# Altium integrated library interface-darlington-driver.IntLib: 41 symbols
Pins are listed as number, name and electrical type; pins without a type are passive.

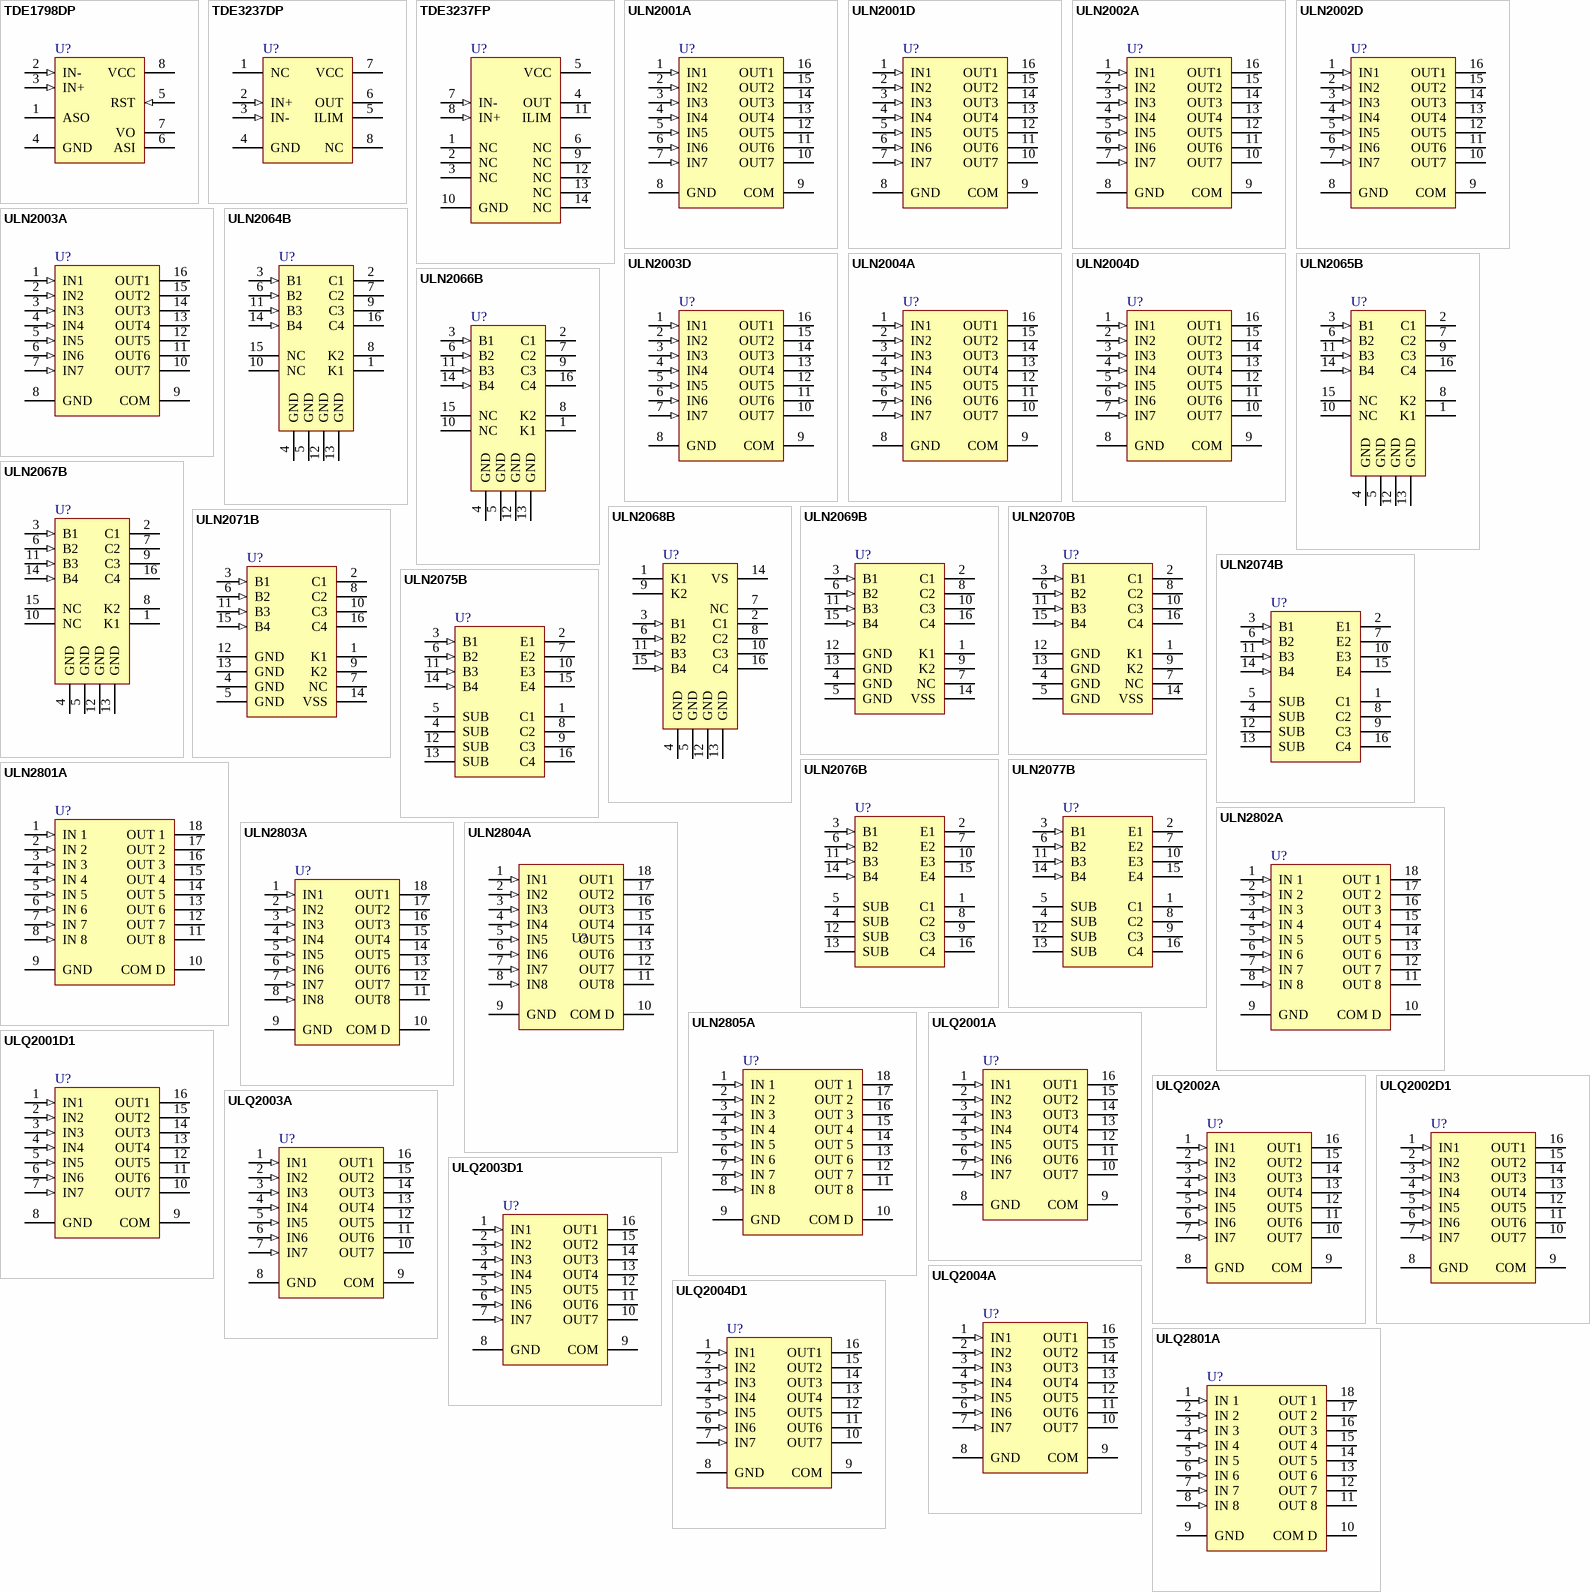
[diagram p0: symbols TDE1798DP to ULQ2801A]

## TDE1798DP
designator U?
0.5A Intelligent Power Switch; DatasheetVersion: 2022
footprint DIP8 (DIP; 8 Leads; Row Spacing 7.62 mm; Pitch 2.54 mm)
pins: 1 ASO (oe), 2 IN- (in), 3 IN+ (in), 4 GND (power), 5 RST (in), 6 ASI (oc), 7 VO (oc), 8 VCC (power)

## TDE3237DP
designator U?
Intelligent Power Switch; DatasheetVersion: 2022
footprint DIP8 (DIP; 8 Leads; Row Spacing 7.62 mm; Pitch 2.54 mm)
pins: 1 NC, 2 IN+ (in), 3 IN- (in), 4 GND (power), 5 ILIM, 6 OUT (oc), 7 VCC (power), 8 NC

## TDE3237FP
designator U?
Intelligent Power Switch; DatasheetVersion: 2022
footprint SO14_N (SOIC, 14-Leads, Body 8.7x3.9mm, Pitch 1.27mm, IPC Medium Density)
footprint SO14_L (SOIC, 14-Leads, Body 8.7x3.9mm, Pitch 1.27mm, IPC High Density)
footprint SO14_M (SOIC, 14-Leads, Body 8.7x3.9mm, Pitch 1.27mm, IPC Low Density)
pins: 1 NC, 2 NC, 3 NC, 4 OUT (oc), 5 VCC (power), 6 NC, 7 IN- (in), 8 IN+ (in), 9 NC, 10 GND (power), 11 ILIM, 12 NC, 13 NC, 14 NC

## ULN2001A
designator U?
Seven Darlington Array; DatasheetVersion: 2022
footprint DIP16 (DIP; 16 Leads; Row Spacing 7.62 mm; Pitch 2.54 mm)
pins: 1 IN1 (in), 2 IN2 (in), 3 IN3 (in), 4 IN4 (in), 5 IN5 (in), 6 IN6 (in), 7 IN7 (in), 8 GND (power), 9 COM, 10 OUT7 (oc), 11 OUT6 (oc), 12 OUT5 (oc), 13 OUT4 (oc), 14 OUT3 (oc), 15 OUT2 (oc), 16 OUT1 (oc)

## ULN2001D
designator U?
Seven Darlington Array; DatasheetVersion: 2022
footprint SO16_N (SOIC, 16-Leads, Body 9.9x3.9mm, Pitch 1.27mm, IPC Medium Density)
footprint SO16_L (SOIC, 16-Leads, Body 9.9x3.9mm, Pitch 1.27mm, IPC High Density)
footprint SO16_M (SOIC, 16-Leads, Body 9.9x3.9mm, Pitch 1.27mm, IPC Low Density)
pins: 1 IN1 (in), 2 IN2 (in), 3 IN3 (in), 4 IN4 (in), 5 IN5 (in), 6 IN6 (in), 7 IN7 (in), 8 GND (power), 9 COM, 10 OUT7 (oc), 11 OUT6 (oc), 12 OUT5 (oc), 13 OUT4 (oc), 14 OUT3 (oc), 15 OUT2 (oc), 16 OUT1 (oc)

## ULN2002A
designator U?
Seven Darlington Array; DatasheetVersion: 2022
footprint DIP16 (DIP; 16 Leads; Row Spacing 7.62 mm; Pitch 2.54 mm)
pins: 1 IN1 (in), 2 IN2 (in), 3 IN3 (in), 4 IN4 (in), 5 IN5 (in), 6 IN6 (in), 7 IN7 (in), 8 GND (power), 9 COM, 10 OUT7 (oc), 11 OUT6 (oc), 12 OUT5 (oc), 13 OUT4 (oc), 14 OUT3 (oc), 15 OUT2 (oc), 16 OUT1 (oc)

## ULN2002D
designator U?
Seven Darlington Array; DatasheetVersion: 2022
footprint SO16_N (SOIC, 16-Leads, Body 9.9x3.9mm, Pitch 1.27mm, IPC Medium Density)
footprint SO16_L (SOIC, 16-Leads, Body 9.9x3.9mm, Pitch 1.27mm, IPC High Density)
footprint SO16_M (SOIC, 16-Leads, Body 9.9x3.9mm, Pitch 1.27mm, IPC Low Density)
pins: 1 IN1 (in), 2 IN2 (in), 3 IN3 (in), 4 IN4 (in), 5 IN5 (in), 6 IN6 (in), 7 IN7 (in), 8 GND (power), 9 COM, 10 OUT7 (oc), 11 OUT6 (oc), 12 OUT5 (oc), 13 OUT4 (oc), 14 OUT3 (oc), 15 OUT2 (oc), 16 OUT1 (oc)

## ULN2003A
designator U?
Seven Darlington Array; DatasheetVersion: 2022
footprint DIP16 (DIP; 16 Leads; Row Spacing 7.62 mm; Pitch 2.54 mm)
pins: 1 IN1 (in), 2 IN2 (in), 3 IN3 (in), 4 IN4 (in), 5 IN5 (in), 6 IN6 (in), 7 IN7 (in), 8 GND (power), 9 COM, 10 OUT7 (oc), 11 OUT6 (oc), 12 OUT5 (oc), 13 OUT4 (oc), 14 OUT3 (oc), 15 OUT2 (oc), 16 OUT1 (oc)

## ULN2003D
designator U?
Seven Darlington Array; DatasheetVersion: 2022
footprint SO16_N (SOIC, 16-Leads, Body 9.9x3.9mm, Pitch 1.27mm, IPC Medium Density)
footprint SO16_L (SOIC, 16-Leads, Body 9.9x3.9mm, Pitch 1.27mm, IPC High Density)
footprint SO16_M (SOIC, 16-Leads, Body 9.9x3.9mm, Pitch 1.27mm, IPC Low Density)
pins: 1 IN1 (in), 2 IN2 (in), 3 IN3 (in), 4 IN4 (in), 5 IN5 (in), 6 IN6 (in), 7 IN7 (in), 8 GND (power), 9 COM, 10 OUT7 (oc), 11 OUT6 (oc), 12 OUT5 (oc), 13 OUT4 (oc), 14 OUT3 (oc), 15 OUT2 (oc), 16 OUT1 (oc)

## ULN2004A
designator U?
Seven Darlington Array; DatasheetVersion: 2022
footprint DIP16 (DIP; 16 Leads; Row Spacing 7.62 mm; Pitch 2.54 mm)
pins: 1 IN1 (in), 2 IN2 (in), 3 IN3 (in), 4 IN4 (in), 5 IN5 (in), 6 IN6 (in), 7 IN7 (in), 8 GND (power), 9 COM, 10 OUT7 (oc), 11 OUT6 (oc), 12 OUT5 (oc), 13 OUT4 (oc), 14 OUT3 (oc), 15 OUT2 (oc), 16 OUT1 (oc)

## ULN2004D
designator U?
Seven Darlington Array; DatasheetVersion: 2022
footprint SO16_N (SOIC, 16-Leads, Body 9.9x3.9mm, Pitch 1.27mm, IPC Medium Density)
footprint SO16_L (SOIC, 16-Leads, Body 9.9x3.9mm, Pitch 1.27mm, IPC High Density)
footprint SO16_M (SOIC, 16-Leads, Body 9.9x3.9mm, Pitch 1.27mm, IPC Low Density)
pins: 1 IN1 (in), 2 IN2 (in), 3 IN3 (in), 4 IN4 (in), 5 IN5 (in), 6 IN6 (in), 7 IN7 (in), 8 GND (power), 9 COM, 10 OUT7 (oc), 11 OUT6 (oc), 12 OUT5 (oc), 13 OUT4 (oc), 14 OUT3 (oc), 15 OUT2 (oc), 16 OUT1 (oc)

## ULN2064B
designator U?
50 V -1.5 A Quad Darlington Switch; DatasheetVersion: 2022
footprint DIP16 (DIP; 16 Leads; Row Spacing 7.62 mm; Pitch 2.54 mm)
pins: 1 K1, 2 C1 (oc), 3 B1 (in), 4 GND (power), 5 GND (power), 6 B2 (in), 7 C2 (oc), 8 K2, 9 C3 (oc), 10 NC, 11 B3 (in), 12 GND (power), 13 GND (power), 14 B4 (in), 15 NC, 16 C4 (oc)

## ULN2065B
designator U?
80 V -1.5 A Quad Darlington Switch; DatasheetVersion: 2022
footprint DIP16 (DIP; 16 Leads; Row Spacing 7.62 mm; Pitch 2.54 mm)
pins: 1 K1, 2 C1 (oc), 3 B1 (in), 4 GND (power), 5 GND (power), 6 B2 (in), 7 C2 (oc), 8 K2, 9 C3 (oc), 10 NC, 11 B3 (in), 12 GND (power), 13 GND (power), 14 B4 (in), 15 NC, 16 C4 (oc)

## ULN2066B
designator U?
50 V -1.5 A Quad Darlington Switch; DatasheetVersion: 2022
footprint DIP16 (DIP; 16 Leads; Row Spacing 7.62 mm; Pitch 2.54 mm)
pins: 1 K1, 2 C1 (oc), 3 B1 (in), 4 GND (power), 5 GND (power), 6 B2 (in), 7 C2 (oc), 8 K2, 9 C3 (oc), 10 NC, 11 B3 (in), 12 GND (power), 13 GND (power), 14 B4 (in), 15 NC, 16 C4 (oc)

## ULN2067B
designator U?
80 V -1.5 A Quad Darlington Switch; DatasheetVersion: 2022
footprint DIP16 (DIP; 16 Leads; Row Spacing 7.62 mm; Pitch 2.54 mm)
pins: 1 K1, 2 C1 (oc), 3 B1 (in), 4 GND (power), 5 GND (power), 6 B2 (in), 7 C2 (oc), 8 K2, 9 C3 (oc), 10 NC, 11 B3 (in), 12 GND (power), 13 GND (power), 14 B4 (in), 15 NC, 16 C4 (oc)

## ULN2068B
designator U?
50 V -1.5 A Quad Darlington Switch; DatasheetVersion: 2022
footprint DIP16 (DIP; 16 Leads; Row Spacing 7.62 mm; Pitch 2.54 mm)
pins: 1 K1, 2 C1 (oc), 3 B1 (in), 4 GND (power), 5 GND (power), 6 B2 (in), 7 NC, 8 C2 (oc), 9 K2, 10 C3 (oc), 11 B3 (in), 12 GND (power), 13 GND (power), 14 VS (power), 15 B4 (in), 16 C4 (oc)

## ULN2069B
designator U?
80 V -1.5 A Quad Darlington Switch; DatasheetVersion: 2022
footprint DIP16 (DIP; 16 Leads; Row Spacing 7.62 mm; Pitch 2.54 mm)
pins: 1 K1, 2 C1 (oc), 3 B1 (in), 4 GND (power), 5 GND (power), 6 B2 (in), 7 NC, 8 C2 (oc), 9 K2, 10 C3 (oc), 11 B3 (in), 12 GND (power), 13 GND (power), 14 VSS (power), 15 B4 (in), 16 C4 (oc)

## ULN2070B
designator U?
50 V -1.5 A Quad Darlington Switch; DatasheetVersion: 2022
footprint DIP16 (DIP; 16 Leads; Row Spacing 7.62 mm; Pitch 2.54 mm)
pins: 1 K1, 2 C1 (oc), 3 B1 (in), 4 GND (power), 5 GND (power), 6 B2 (in), 7 NC, 8 C2 (oc), 9 K2, 10 C3 (oc), 11 B3 (in), 12 GND (power), 13 GND (power), 14 VSS (power), 15 B4 (in), 16 C4 (oc)

## ULN2071B
designator U?
80 V -1.5 A Quad Darlington Switch; DatasheetVersion: 2022
footprint DIP16 (DIP; 16 Leads; Row Spacing 7.62 mm; Pitch 2.54 mm)
pins: 1 K1, 2 C1 (oc), 3 B1 (in), 4 GND (power), 5 GND (power), 6 B2 (in), 7 NC, 8 C2 (oc), 9 K2, 10 C3 (oc), 11 B3 (in), 12 GND (power), 13 GND (power), 14 VSS (power), 15 B4 (in), 16 C4 (oc)

## ULN2074B
designator U?
50 V -1.5 A Quad Darlington Switch; DatasheetVersion: 2022
footprint DIP16 (DIP; 16 Leads; Row Spacing 7.62 mm; Pitch 2.54 mm)
pins: 1 C1, 2 E1, 3 B1 (in), 4 SUB (power), 5 SUB (power), 6 B2 (in), 7 E2, 8 C2, 9 C3, 10 E3, 11 B3 (in), 12 SUB (power), 13 SUB (power), 14 B4 (in), 15 E4, 16 C4

## ULN2075B
designator U?
80 V -1.5 A Quad Darlington Switch; DatasheetVersion: 2022
footprint DIP16 (DIP; 16 Leads; Row Spacing 7.62 mm; Pitch 2.54 mm)
pins: 1 C1, 2 E1, 3 B1 (in), 4 SUB (power), 5 SUB (power), 6 B2 (in), 7 E2, 8 C2, 9 C3, 10 E3, 11 B3 (in), 12 SUB (power), 13 SUB (power), 14 B4 (in), 15 E4, 16 C4

## ULN2076B
designator U?
50 V -1.5 A Quad Darlington Switch; DatasheetVersion: 2022
footprint DIP16 (DIP; 16 Leads; Row Spacing 7.62 mm; Pitch 2.54 mm)
pins: 1 C1, 2 E1, 3 B1 (in), 4 SUB (power), 5 SUB (power), 6 B2 (in), 7 E2, 8 C2, 9 C3, 10 E3, 11 B3 (in), 12 SUB (power), 13 SUB (power), 14 B4 (in), 15 E4, 16 C4

## ULN2077B
designator U?
80 V -1.5 A Quad Darlington Switch; DatasheetVersion: 2022
footprint DIP16 (DIP; 16 Leads; Row Spacing 7.62 mm; Pitch 2.54 mm)
pins: 1 C1, 2 E1, 3 B1 (in), 4 SUB (power), 5 SUB (power), 6 B2 (in), 7 E2, 8 C2, 9 C3, 10 E3, 11 B3 (in), 12 SUB (power), 13 SUB (power), 14 B4 (in), 15 E4, 16 C4

## ULN2801A
designator U?
Eight Darlington Array; DatasheetVersion: 2022
footprint DIP18 (DIP; 18 Leads; Row Spacing 7.62 mm; Pitch 2.54 mm)
pins: 1 IN 1 (in), 2 IN 2 (in), 3 IN 3 (in), 4 IN 4 (in), 5 IN 5 (in), 6 IN 6 (in), 7 IN 7 (in), 8 IN 8 (in), 9 GND (power), 10 COM D, 11 OUT 8 (oc), 12 OUT 7 (oc), 13 OUT 6 (oc), 14 OUT 5 (oc), 15 OUT 4 (oc), 16 OUT 3 (oc), 17 OUT 2 (oc), 18 OUT 1 (oc)

## ULN2802A
designator U?
Eight Darlington Array; DatasheetVersion: 2022
footprint DIP18 (DIP; 18 Leads; Row Spacing 7.62 mm; Pitch 2.54 mm)
pins: 1 IN 1 (in), 2 IN 2 (in), 3 IN 3 (in), 4 IN 4 (in), 5 IN 5 (in), 6 IN 6 (in), 7 IN 7 (in), 8 IN 8 (in), 9 GND (power), 10 COM D, 11 OUT 8 (oc), 12 OUT 7 (oc), 13 OUT 6 (oc), 14 OUT 5 (oc), 15 OUT 4 (oc), 16 OUT 3 (oc), 17 OUT 2 (oc), 18 OUT 1 (oc)

## ULN2803A
designator U?
Eight Darlington Array; DatasheetVersion: 2022
footprint DIP18 (DIP; 18 Leads; Row Spacing 7.62 mm; Pitch 2.54 mm)
pins: 1 IN1 (in), 2 IN2 (in), 3 IN3 (in), 4 IN4 (in), 5 IN5 (in), 6 IN6 (in), 7 IN7 (in), 8 IN8 (in), 9 GND (power), 10 COM D, 11 OUT8 (oc), 12 OUT7 (oc), 13 OUT6 (oc), 14 OUT5 (oc), 15 OUT4 (oc), 16 OUT3 (oc), 17 OUT2 (oc), 18 OUT1 (oc)

## ULN2804A
designator U?
Eight Darlington Array; DatasheetVersion: 2022
footprint DIP18 (DIP; 18 Leads; Row Spacing 7.62 mm; Pitch 2.54 mm)
pins: 1 IN1 (in), 2 IN2 (in), 3 IN3 (in), 4 IN4 (in), 5 IN5 (in), 6 IN6 (in), 7 IN7 (in), 8 IN8 (in), 9 GND (power), 10 COM D, 11 OUT8 (oc), 12 OUT7 (oc), 13 OUT6 (oc), 14 OUT5 (oc), 15 OUT4 (oc), 16 OUT3 (oc), 17 OUT2 (oc), 18 OUT1 (oc)

## ULN2805A
designator U?
Eight Darlington Array; DatasheetVersion: 2022
footprint DIP18 (DIP; 18 Leads; Row Spacing 7.62 mm; Pitch 2.54 mm)
pins: 1 IN 1 (in), 2 IN 2 (in), 3 IN 3 (in), 4 IN 4 (in), 5 IN 5 (in), 6 IN 6 (in), 7 IN 7 (in), 8 IN 8 (in), 9 GND (power), 10 COM D, 11 OUT 8 (oc), 12 OUT 7 (oc), 13 OUT 6 (oc), 14 OUT 5 (oc), 15 OUT 4 (oc), 16 OUT 3 (oc), 17 OUT 2 (oc), 18 OUT 1 (oc)

## ULQ2001A
designator U?
Seven Darlington Array; DatasheetVersion: 2022
footprint DIP16 (DIP; 16 Leads; Row Spacing 7.62 mm; Pitch 2.54 mm)
pins: 1 IN1 (in), 2 IN2 (in), 3 IN3 (in), 4 IN4 (in), 5 IN5 (in), 6 IN6 (in), 7 IN7 (in), 8 GND (power), 9 COM, 10 OUT7 (oc), 11 OUT6 (oc), 12 OUT5 (oc), 13 OUT4 (oc), 14 OUT3 (oc), 15 OUT2 (oc), 16 OUT1 (oc)

## ULQ2001D1
designator U?
Seven Darlington Array; DatasheetVersion: 2022
footprint SO16_N (SOIC, 16-Leads, Body 9.9x3.9mm, Pitch 1.27mm, IPC Medium Density)
footprint SO16_L (SOIC, 16-Leads, Body 9.9x3.9mm, Pitch 1.27mm, IPC High Density)
footprint SO16_M (SOIC, 16-Leads, Body 9.9x3.9mm, Pitch 1.27mm, IPC Low Density)
pins: 1 IN1 (in), 2 IN2 (in), 3 IN3 (in), 4 IN4 (in), 5 IN5 (in), 6 IN6 (in), 7 IN7 (in), 8 GND (power), 9 COM, 10 OUT7 (oc), 11 OUT6 (oc), 12 OUT5 (oc), 13 OUT4 (oc), 14 OUT3 (oc), 15 OUT2 (oc), 16 OUT1 (oc)

## ULQ2002A
designator U?
Seven Darlington Array; DatasheetVersion: 2022
footprint DIP16 (DIP; 16 Leads; Row Spacing 7.62 mm; Pitch 2.54 mm)
pins: 1 IN1 (in), 2 IN2 (in), 3 IN3 (in), 4 IN4 (in), 5 IN5 (in), 6 IN6 (in), 7 IN7 (in), 8 GND (power), 9 COM, 10 OUT7 (oc), 11 OUT6 (oc), 12 OUT5 (oc), 13 OUT4 (oc), 14 OUT3 (oc), 15 OUT2 (oc), 16 OUT1 (oc)

## ULQ2002D1
designator U?
Seven Darlington Array; DatasheetVersion: 2022
footprint SO16_N (SOIC, 16-Leads, Body 9.9x3.9mm, Pitch 1.27mm, IPC Medium Density)
footprint SO16_L (SOIC, 16-Leads, Body 9.9x3.9mm, Pitch 1.27mm, IPC High Density)
footprint SO16_M (SOIC, 16-Leads, Body 9.9x3.9mm, Pitch 1.27mm, IPC Low Density)
pins: 1 IN1 (in), 2 IN2 (in), 3 IN3 (in), 4 IN4 (in), 5 IN5 (in), 6 IN6 (in), 7 IN7 (in), 8 GND (power), 9 COM, 10 OUT7 (oc), 11 OUT6 (oc), 12 OUT5 (oc), 13 OUT4 (oc), 14 OUT3 (oc), 15 OUT2 (oc), 16 OUT1 (oc)

## ULQ2003A
designator U?
Seven Darlington Array; DatasheetVersion: 2022
footprint DIP16 (DIP; 16 Leads; Row Spacing 7.62 mm; Pitch 2.54 mm)
pins: 1 IN1 (in), 2 IN2 (in), 3 IN3 (in), 4 IN4 (in), 5 IN5 (in), 6 IN6 (in), 7 IN7 (in), 8 GND (power), 9 COM, 10 OUT7 (oc), 11 OUT6 (oc), 12 OUT5 (oc), 13 OUT4 (oc), 14 OUT3 (oc), 15 OUT2 (oc), 16 OUT1 (oc)

## ULQ2003D1
designator U?
Seven Darlington Array; DatasheetVersion: 2022
footprint SO16_N (SOIC, 16-Leads, Body 9.9x3.9mm, Pitch 1.27mm, IPC Medium Density)
footprint SO16_L (SOIC, 16-Leads, Body 9.9x3.9mm, Pitch 1.27mm, IPC High Density)
footprint SO16_M (SOIC, 16-Leads, Body 9.9x3.9mm, Pitch 1.27mm, IPC Low Density)
pins: 1 IN1 (in), 2 IN2 (in), 3 IN3 (in), 4 IN4 (in), 5 IN5 (in), 6 IN6 (in), 7 IN7 (in), 8 GND (power), 9 COM, 10 OUT7 (oc), 11 OUT6 (oc), 12 OUT5 (oc), 13 OUT4 (oc), 14 OUT3 (oc), 15 OUT2 (oc), 16 OUT1 (oc)

## ULQ2004A
designator U?
Seven Darlington Array; DatasheetVersion: 2022
footprint DIP16 (DIP; 16 Leads; Row Spacing 7.62 mm; Pitch 2.54 mm)
pins: 1 IN1 (in), 2 IN2 (in), 3 IN3 (in), 4 IN4 (in), 5 IN5 (in), 6 IN6 (in), 7 IN7 (in), 8 GND (power), 9 COM, 10 OUT7 (oc), 11 OUT6 (oc), 12 OUT5 (oc), 13 OUT4 (oc), 14 OUT3 (oc), 15 OUT2 (oc), 16 OUT1 (oc)

## ULQ2004D1
designator U?
Seven Darlington Array; DatasheetVersion: 2022
footprint SO16_N (SOIC, 16-Leads, Body 9.9x3.9mm, Pitch 1.27mm, IPC Medium Density)
footprint SO16_L (SOIC, 16-Leads, Body 9.9x3.9mm, Pitch 1.27mm, IPC High Density)
footprint SO16_M (SOIC, 16-Leads, Body 9.9x3.9mm, Pitch 1.27mm, IPC Low Density)
pins: 1 IN1 (in), 2 IN2 (in), 3 IN3 (in), 4 IN4 (in), 5 IN5 (in), 6 IN6 (in), 7 IN7 (in), 8 GND (power), 9 COM, 10 OUT7 (oc), 11 OUT6 (oc), 12 OUT5 (oc), 13 OUT4 (oc), 14 OUT3 (oc), 15 OUT2 (oc), 16 OUT1 (oc)

## ULQ2801A
designator U?
Eight Darlington Array; DatasheetVersion: 2022
footprint DIP18 (DIP; 18 Leads; Row Spacing 7.62 mm; Pitch 2.54 mm)
pins: 1 IN 1 (in), 2 IN 2 (in), 3 IN 3 (in), 4 IN 4 (in), 5 IN 5 (in), 6 IN 6 (in), 7 IN 7 (in), 8 IN 8 (in), 9 GND (power), 10 COM D, 11 OUT 8 (oc), 12 OUT 7 (oc), 13 OUT 6 (oc), 14 OUT 5 (oc), 15 OUT 4 (oc), 16 OUT 3 (oc), 17 OUT 2 (oc), 18 OUT 1 (oc)

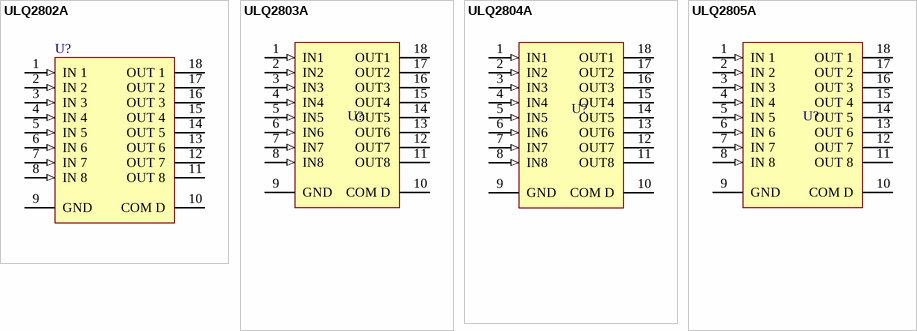
[diagram p1: symbols ULQ2802A to ULQ2805A]

## ULQ2802A
designator U?
Eight Darlington Array; DatasheetVersion: 2022
footprint DIP18 (DIP; 18 Leads; Row Spacing 7.62 mm; Pitch 2.54 mm)
pins: 1 IN 1 (in), 2 IN 2 (in), 3 IN 3 (in), 4 IN 4 (in), 5 IN 5 (in), 6 IN 6 (in), 7 IN 7 (in), 8 IN 8 (in), 9 GND (power), 10 COM D, 11 OUT 8 (oc), 12 OUT 7 (oc), 13 OUT 6 (oc), 14 OUT 5 (oc), 15 OUT 4 (oc), 16 OUT 3 (oc), 17 OUT 2 (oc), 18 OUT 1 (oc)

## ULQ2803A
designator U?
Eight Darlington Array; DatasheetVersion: 2022
footprint DIP18 (DIP; 18 Leads; Row Spacing 7.62 mm; Pitch 2.54 mm)
pins: 1 IN1 (in), 2 IN2 (in), 3 IN3 (in), 4 IN4 (in), 5 IN5 (in), 6 IN6 (in), 7 IN7 (in), 8 IN8 (in), 9 GND (power), 10 COM D, 11 OUT8 (oc), 12 OUT7 (oc), 13 OUT6 (oc), 14 OUT5 (oc), 15 OUT4 (oc), 16 OUT3 (oc), 17 OUT2 (oc), 18 OUT1 (oc)

## ULQ2804A
designator U?
Eight Darlington Array; DatasheetVersion: 2022
footprint DIP18 (DIP; 18 Leads; Row Spacing 7.62 mm; Pitch 2.54 mm)
pins: 1 IN1 (in), 2 IN2 (in), 3 IN3 (in), 4 IN4 (in), 5 IN5 (in), 6 IN6 (in), 7 IN7 (in), 8 IN8 (in), 9 GND (power), 10 COM D, 11 OUT8 (oc), 12 OUT7 (oc), 13 OUT6 (oc), 14 OUT5 (oc), 15 OUT4 (oc), 16 OUT3 (oc), 17 OUT2 (oc), 18 OUT1 (oc)

## ULQ2805A
designator U?
Eight Darlington Array; ComponentLink1Description: Tarahiboard; ComponentLink1URL: https://www.tarahiboard.com/product/library-pack; DatasheetVersion: 2022
footprint DIP18 (DIP; 18 Leads; Row Spacing 7.62 mm; Pitch 2.54 mm)
pins: 1 IN 1 (in), 2 IN 2 (in), 3 IN 3 (in), 4 IN 4 (in), 5 IN 5 (in), 6 IN 6 (in), 7 IN 7 (in), 8 IN 8 (in), 9 GND (power), 10 COM D, 11 OUT 8 (oc), 12 OUT 7 (oc), 13 OUT 6 (oc), 14 OUT 5 (oc), 15 OUT 4 (oc), 16 OUT 3 (oc), 17 OUT 2 (oc), 18 OUT 1 (oc)